# Altium integrated library Exercise5_Buck.IntLib: 16 symbols
Pins are listed as number, name and electrical type; pins without a type are passive.

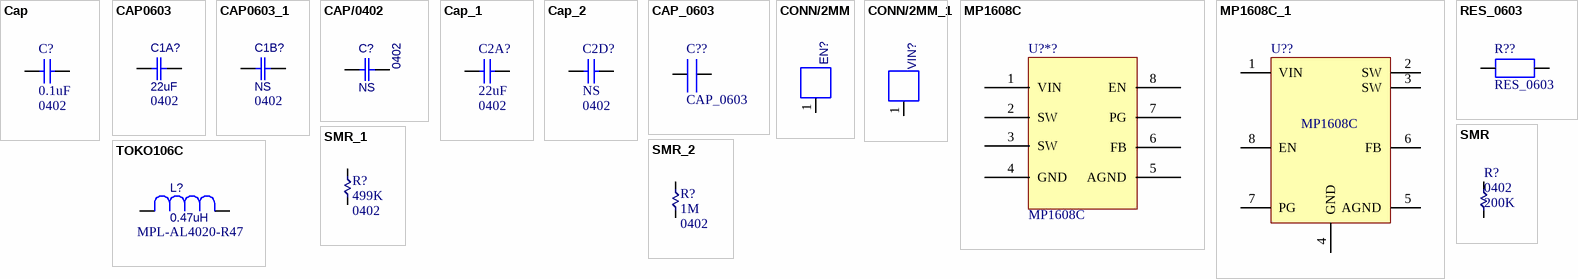
[diagram p0: symbols Cap to TOKO106C]

## Cap
designator C?  value 0.1uF  Package: 0402  (hidden comment: Cap)
50V Ceramic Capacitor
footprint CAP/0402
pins: 1, 2

## CAP0603
designator C1A?, comment value 22uF  (hidden comment: CAP\0603)
CAP0603
footprint CAP/0402
pins: 1, 2
text: 0402

## CAP0603_1
designator C1B?, comment value NS  (hidden comment: CAP\0603)
CAP0603
footprint CAP/0402
pins: 1, 2
text: 0402

## CAP/0402
designator C?  value NS  Package: 0402
{Description}; Manufacturer: {Manufacturer}; Manufacturer P/N: {Manufacturer P/N}
footprint CAP/0402
pins: 1, 2

## Cap_1
designator C2A?, comment value 22uF  Package: 0402  (hidden comment: Cap)
50V Ceramic Capacitor
footprint CAP/0402
pins: 1, 2

## Cap_2
designator C2D?, comment value NS  Package: 0402  (hidden comment: Cap)
50V Ceramic Capacitor
footprint CAP/0402
pins: 1, 2

## CAP_0603
designator C??
Capacitor SMD 0603 Generic; Manufacturer: YAGEO; Manufacturer Part Number: CC0603KRX7R8BB104; Capacitance: 100 nF; Tolerance: 10%; LCSC Part Number: C92490
footprint CAP_0603
pins: 9, 10

## CONN/2MM
designator EN?, comment CONN/1MM  (value not drawn)
{Description}; Manufacturer P/N: {Manufacturer P/N}; Manufacturer: {Manufacturer}; Package: {Package}; Value: *
footprint TP/1MM
pins: 1

## CONN/2MM_1
designator VIN?, comment CONN/2MM  (value not drawn)
{Description}; Manufacturer P/N: {Manufacturer P/N}; Manufacturer: {Manufacturer}; Package: {Package}; Value: *
footprint TP/2MM
pins: 1

## MP1608C
designator U?*?
The MP1608C is a monolithic, step-down switchmode converter with built-in internal power / MOSFETs. It achieves 6A of continuous output / current (IOUT) from a 2.4V to 5.5V input voltage / (VIN) range, with excellent load and line / regulation. The output voltage (VOUT) can be / regulated to as low as 0.4V. / The constant-on-time (COT) control scheme / provides fast transient response and facilitates / loop stabilization. Fault protections include / cycle-by-cycle current limiting and thermal / shutdown. / The MP1608C is well-suited for a wide range of / applications including high-performance digital / signal processors (DSPs), wireless power, / portable and mobile devices, and other lowpower systems. / The MP1608C requires a minimal number of / readily available, standard external components. / It is available in an ultra-small SOT583 package.; Manufacturer: Monolithic Power Systems (MPS); Manufacturer Part Number: MP1608CGTL-P; Switching Frequency: 1.25MHz; Operating Junction Temp (Tj): -40°C to +125°C; Feedback Voltage (Vfb): 0.6V; Input Voltage (Min): 2.4V; Input Voltage (Max): 5.5V; Output Current (Max): 6A; Package: SOT583-8; Mounting Type: Surface Mount (SMD)
footprint MP1608C
pins: 1 VIN "Supply voltage", 2 SW "Output switching node", 3 SW "Output switching node", 4 GND "Power ground.", 5 AGND "Signal ground", 6 FB "Feedback pin", 7 PG "Power good indicator", 8 EN "On/off control"

## MP1608C_1
designator U??, comment MP1608C
footprint SOT583
pins: 1 VIN, 2 SW, 3 SW, 4 GND, 5 AGND, 6 FB, 7 PG, 8 EN

## RES_0603
designator R??
Resistor SMD 0603 Generic; Manufacturer: YAGEO; Manufacturer Part Number: NT0603BRD0711K1L; Tolerance: 0.1%; Resistance: 11.1 kOhm; LCSC Part Number: C5197511
footprint RES_0603
pins: 7, 8

## SMR
designator R?, comment value 200K  Package: 0402  (hidden comment: RC(0603_50V0805_150V1206_200V2512_200V)
Film resistor, 1%; Manufacturer: YAGEO
footprint sm0805
footprint sm1206
footprint sm2512
footprint sm1210
footprint RES/0402
pins: 1, 2

## SMR_1
designator R?, comment value 499K  Package: 0402  (hidden comment: RC(0603_50V0805_150V1206_200V2512_200V)
Film resistor, 1%; Manufacturer: YAGEO
footprint sm0805
footprint sm1206
footprint sm2512
footprint sm1210
footprint RES/0402
pins: 1, 2

## SMR_2
designator R?, comment value 1M  Package: 0402  (hidden comment: RC(0603_50V0805_150V1206_200V2512_200V)
Film resistor, 1%; Manufacturer: YAGEO
footprint sm0805
footprint sm1206
footprint sm2512
footprint sm1210
footprint RES/0402
pins: 1, 2

## TOKO106C
designator L?, comment value 0.47uH  (hidden comment: COILCRAFT/LPO2506IB-682)
TOKO106C
footprint MPL-AL4020-R47
pins: 1, 2
text: MPL-AL4020-R47